# Altium integrated library TI.IntLib: 1 symbol
Pins are listed as number, name and electrical type; pins without a type are passive.

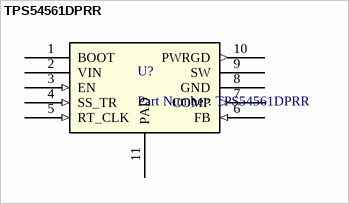
[diagram p0: symbol TPS54561DPRR]

## TPS54561DPRR
designator U?, comment Part Number: TPS54561DPRR
No Description Available; Vendor: Texas Instruments; Built_By: EMA_UL_Team; Manufacturer_Part_Number: TPS54561DPRR; Copyright: Copyright (C) 2018 Accelerated Designs. All rights reserved; RefDes: RefDes; Type: DEV; Value: Value
footprint DPR0010A
pins: 1 BOOT (power), 2 VIN (power), 3 EN (in), 4 SS_TR (in), 5 RT_CLK (in), 6 FB (in), 7 COMP (out), 8 GND (power), 9 SW (power), 10 PWRGD (out), 11 PAD (power)